# Altium schematic symbol library CL21B106KOQNNNE.SchLib: 1 symbol
Pins are listed as number, name and electrical type; pins without a type are passive.

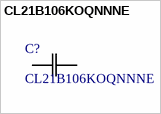
[diagram p0: symbol CL21B106KOQNNNE]

## CL21B106KOQNNNE
designator C?
Description; Manufacturer_Name: Samsung; Copyright: Copyright (C) 2025 Ultra Librarian. All rights reserved.; Manufacturer_Part_Number: CL21B106KOQNNNE
footprint CAP_CL21B106KOQNNNE_SAM
pins: 1, 2